# EAGLE library part ATTINY412 (library Atmel)
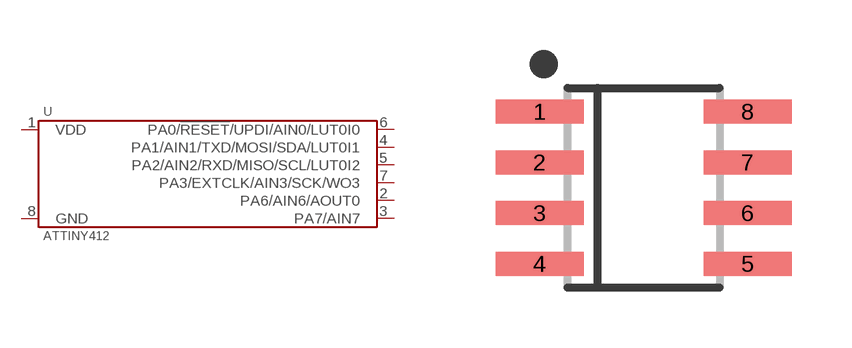
[diagram p31: symbol with the pads of SOIC-8; footprint SOIC-8]

Designator prefix U

## ATTINY412-SSNR  [SOIC-8]
1  VDD
2  PA6/AIN6/AOUT0
3  PA7/AIN7
4  PA1/AIN1/TXD/MOSI/SDA/LUT0I1
5  PA2/AIN2/RXD/MISO/SCL/LUT0I2
6  PA0/!RESET!/UPDI/AIN0/LUT0I0
7  PA3/EXTCLK/AIN3/SCK/WO3
8  GND

## Footprint SOIC-8 (pad centres in mm)
smd 2.2 x 0.6: 1 -2.6,1.905; 2 -2.6,0.635; 3 -2.6,-0.635; 4 -2.6,-1.905; 5 2.6,-1.905; 6 2.6,-0.635; 7 2.6,0.635; 8 2.6,1.905